# Altium footprint library PCB - CONNECTOR - MISC - ASSMANN AWHW 14G-0202-T.PCBLIB: 1 footprints
Each footprint in its own frame and in the unit in brackets; x right, y up, seen from the top. Pads: shape width x height; smd on the part's side, far side on the other; paste and mask are expansions set on the pad; w line width, h text height; cw(c..) or ccw(c..) is an arc to the next point about the centre after c.
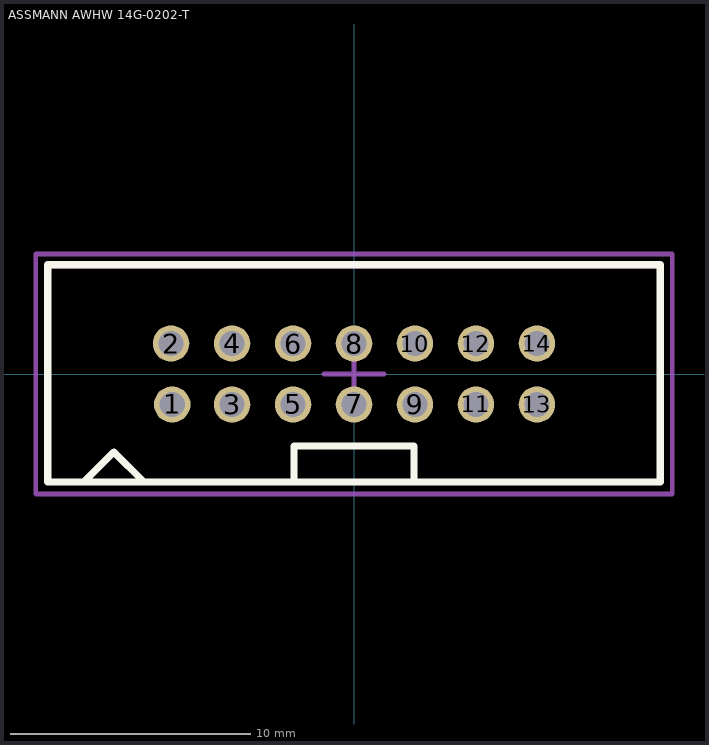
[diagram p0: the footprint, top view; thin cyan lines are the x and y axes]

## ASSMANN AWHW 14G-0202-T [mm]
height 9
pads (14):
  oval 1.52x1.5 hole 1.05 mask+0.1: 1(-7.572,-1.27) 2(-7.62,1.27) 3(-5.08,-1.27) 4(-5.08,1.27) 5(-2.54,-1.27) 6(-2.54,1.27) 7(0,-1.27) 8(0,1.27) 9(2.54,-1.27) 10(2.54,1.27) 11(5.08,-1.27) 12(5.08,1.27) 13(7.62,-1.27) 14(7.62,1.27)
Top Overlay:
  lines w0.3: -11.25,-4.5 -10,-3.25 -8.75,-4.5 ; -2.5,-4.5 -2.5,-3 2.5,-3 2.5,-4.5 ; -12.75,-4.5 12.75,-4.5 12.75,4.547 -12.75,4.547 -12.75,-4.5
Mechanical 1:
  lines w0.2: -12.75,-4.5 -12.75,4.5 12.75,4.5 12.75,-4.5 -12.75,-4.5
Mechanical 15:
  lines w0.2: -1.25,0 1.25,0 ; 0,-1.25 0,1.25 ; -13.25,-5 -13.25,5 13.25,5 13.25,-5 -13.25,-5
3D body "Assmann - AWHW 14G-0202-T.stp": height 8.9, standoff -3.4, extent -12.7,-4.394 12.7,4.556